# Altium schematic symbol library CL05B105KQ5NQNC.SchLib: 1 symbol
Pins are listed as number, name and electrical type; pins without a type are passive.

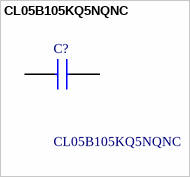
[diagram p0: symbol CL05B105KQ5NQNC]

## CL05B105KQ5NQNC
designator C?
Cap Ceramic 1uF 6.3V X7R 10% Pad SMD 0402 125C T/R; Manufacturer_Name: SAMSUNG; Geometry.Height: 0.55mm; Manufacturer_Part_Number: CL05B105KQ5NQNC; Mouser Part Number: 187-CL05B105KQ5NQNC; Mouser Price/Stock: https://www.mouser.co.uk/ProductDetail/Samsung-Electro-Mechanics/CL05B105KQ5NQNC?qs=rzUXcgKXlodZ31DFWLtHjw%3D%3D; Arrow Part Number: CL05B105KQ5NQNC; Arrow Price/Stock: https://www.arrow.com/en/products/cl05b105kq5nqnc/samsung-electro-mechanics?region=nac; Datasheet Link: https://media.digikey.com/pdf/Data%20Sheets/Samsung%20PDFs/CL10A225KO8NNNC_Spec.pdf
footprint CAPC1005X55N
pins: 1, 2